# Altium footprint library PCB - Connector - Keystone_3534.PCBLIB: 1 footprints
Each footprint in its own frame and in the unit in brackets; x right, y up, seen from the top. Pads: shape width x height; smd on the part's side, far side on the other; paste and mask are expansions set on the pad; w line width, h text height; cw(c..) or ccw(c..) is an arc to the next point about the centre after c.
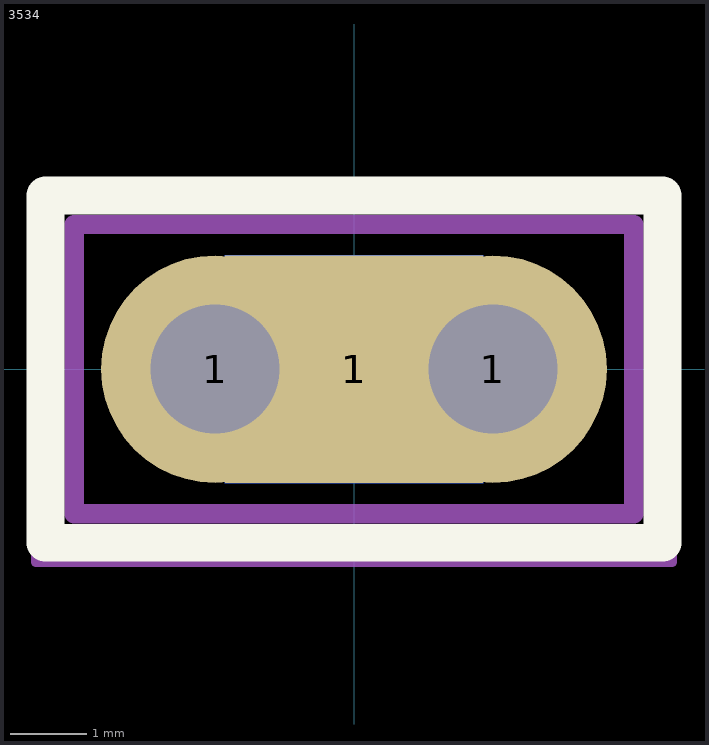
[diagram p0: the footprint, top view; thin cyan lines are the x and y axes]

## 3534 [mm] "Flachsteckerhülse, Keystone, 2.8mm"
height 8
pads (4):
  round 3 hole 1.7 unplated: 1(-1.83,0) 1(1.83,0)
  rect 3.4x3 smd paste+0: 1(0,0)
  rect 3.4x3 smd far side paste+0: 1(0,0)
Top Overlay:
  lines w0.5: -4.064,-2.286 4.064,-2.286 4.064,2.286 -4.064,2.286 -4.064,-2.286
Top Assembly:
  lines w0.254: -3.683,-1.905 3.683,-1.905 3.683,1.905 -3.683,1.905 -3.683,-1.905
Top Courtyard:
  lines w0.127: -4.191,-2.54 4.191,-2.54 4.191,2.413 -4.191,2.413 -4.191,-2.54
Top Designator:
  text ".Designator" at -4.191,3.556 h1
Top Value (Mech13):
  text ".Comment" at -4.191,2.667 h1
3D body "keystone-PN3534.STEP": height 8.01, standoff -3.16, extent -1.981,-0.66 1.981,1.524